# EAGLE library part ATTINY85 (library dooba)
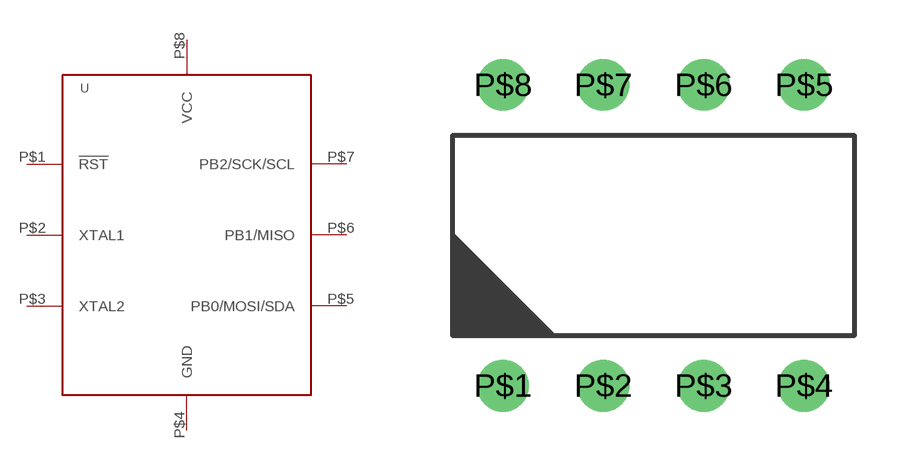
[diagram p63: symbol with the pads of PDIP8; footprint PDIP8]

Designator prefix U

## ATTINY85PDIP  [PDIP8]
P$1  !RST
P$2  XTAL1
P$3  XTAL2
P$4  GND
P$5  PB0/MOSI/SDA
P$6  PB1/MISO
P$7  PB2/SCK/SCL
P$8  VCC

## Footprint PDIP8 (pad centres in mm)
drill 0.8: P$1 -3.81,-3.81; P$2 -1.27,-3.81; P$3 1.27,-3.81; P$4 3.81,-3.81; P$5 3.81,3.81; P$6 1.27,3.81; P$7 -1.27,3.81; P$8 -3.81,3.81